# Altium footprint library 1206SB.PcbLib: 1 footprints
Each footprint in its own frame and in the unit in brackets; x right, y up, seen from the top. Pads: shape width x height; smd on the part's side, far side on the other; paste and mask are expansions set on the pad; w line width, h text height; cw(c..) or ccw(c..) is an arc to the next point about the centre after c.
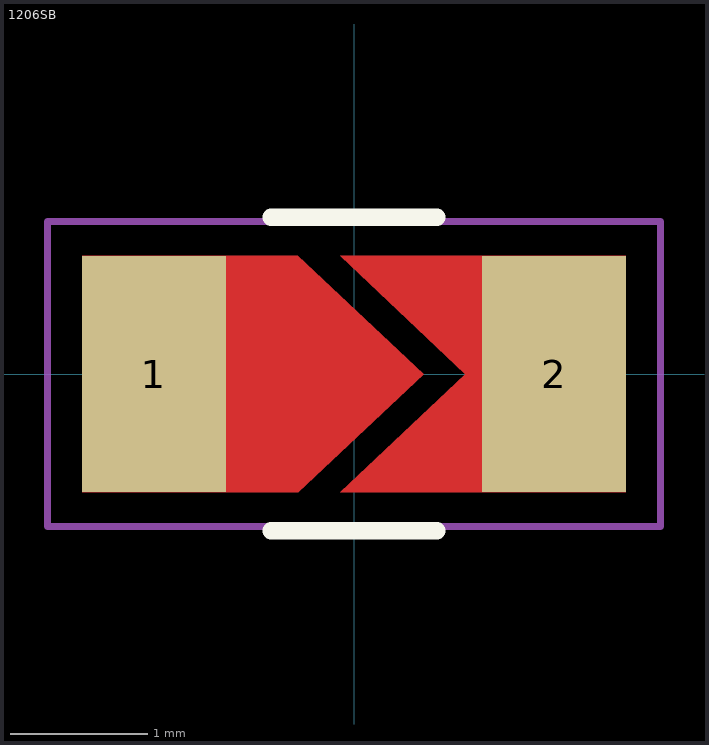
[diagram p0: the footprint, top view; thin cyan lines are the x and y axes]

## 1206SB [mm]
pads (2):
  rect 1.05x1.72 smd: 1(-1.46,0) 2(1.46,0)
Top Layer:
  region: -1.981,0.864 -1.981,-0.864 -0.406,-0.864 0.508,0 -0.411,0.864
  region: -1.143,0.615
  region: -1.143,0.365
  region: -0.102,0.864 0.813,0 -0.102,-0.864 1.981,-0.864 1.981,0.864
Top Overlay:
  lines w0.127: -0.605,-1.143 0.605,-1.143 ; -0.605,1.143 0.605,1.143
Top Solder:
  rectangle: -0.862,-0.962 0.866,0.962
Mechanical 15:
  lines w0.05: -2.235,-1.112 -2.235,1.112 2.235,1.112 2.235,-1.112 -2.235,-1.112
3D body: height 0.3, standoff 0, extent -0.965,-0.864 0.965,0.864